# Altium schematic symbol library ABS8.SchLib: 1 symbol
Pins are listed as number, name and electrical type; pins without a type are passive.

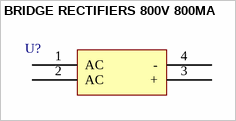
[diagram p0: symbol BRIDGE RECTIFIERS 800V 800MA]

## BRIDGE RECTIFIERS 800V 800MA
designator U?  (value not drawn)
BRIDGE RECTIFIERS 800V 800MA 1.1V @ 8A ABS ROHS; Manufacturer: Shandong Jingdao Microelectronics; MFR.Part #: ABS8; ComponentLink1Description: Datasheet; ComponentLink1URL: https://datasheet.lcsc.com/szlcsc/Shandong-Jingdao-Microelectronics-ABS8_C169531.pdf; LCSC Part #: C169531; Package: ABS_4.4x5.0x4.0P
footprint PCBComponent_1
pins: 1 AC, 2 AC, 3 +, 4 -